# Altium footprint library PCB - DIODES - NEXPERIA SOD-128 CFP5.PcbLib: 1 footprints
Each footprint in its own frame and in the unit in brackets; x right, y up, seen from the top. Pads: shape width x height; smd on the part's side, far side on the other; paste and mask are expansions set on the pad; w line width, h text height; cw(c..) or ccw(c..) is an arc to the next point about the centre after c.
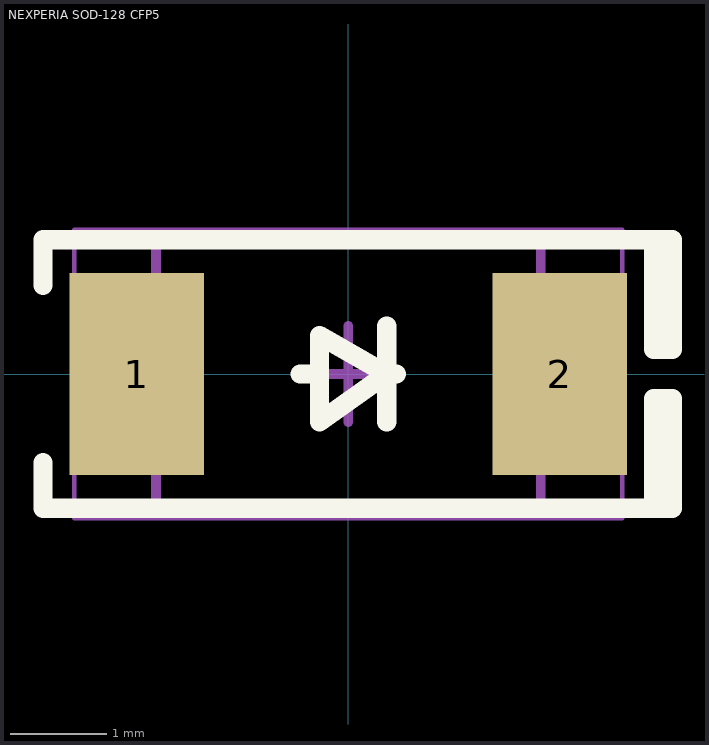
[diagram p0: the footprint, top view; thin cyan lines are the x and y axes]

## NEXPERIA SOD-128 CFP5 [mm] "SOD128, 2-Leads, Body 2.50x4.70mm, IPC Medium Density"
height 1.1
pads (2):
  rect 1.4x2.1 smd: 1(-2.2,0) 2(2.2,0)
Top Overlay:
  lines w0.2: -3.175,-0.921 -3.175,-1.397 3.175,-1.397 ; -3.175,0.921 -3.175,1.397 3.175,1.397 ; -0.5,0 -0.3,0 ; 0.4,-0.5 0.4,0.5 ; 0.5,0 0.4,0 ; 0.4,0 -0.3,-0.5 -0.3,0.4 0.4,0 ; 3.175,-1.397 3.369,-1.397 3.369,-0.254 3.175,-0.254 3.175,-1.397 ; 3.175,1.397 3.369,1.397 3.369,0.254 3.175,0.254 3.175,1.397
Mechanical 13:
  lines w0.1: -2,-1.35 2,-1.35 2,1.35 -2,1.35 -2,-1.35
Mechanical 15:
  lines w0.05: -2.85,-1.5 2.85,-1.5 2.85,1.5 -2.85,1.5 -2.85,-1.5
Mechanical 2 (Mech9):
  lines w0.1: -0.5,0 0.5,0 ; 0,-0.5 0,0.5
3D body "NEXPERIA SOD-128 CFP5.step": height 1.1, standoff 0, extent -2.35,-1.35 2.35,1.35